# Altium footprint library SON50P100X55-10N.PcbLib: 1 footprints
Each footprint in its own frame and in the unit in brackets; x right, y up, seen from the top. Pads: shape width x height; smd on the part's side, far side on the other; paste and mask are expansions set on the pad; w line width, h text height; cw(c..) or ccw(c..) is an arc to the next point about the centre after c.
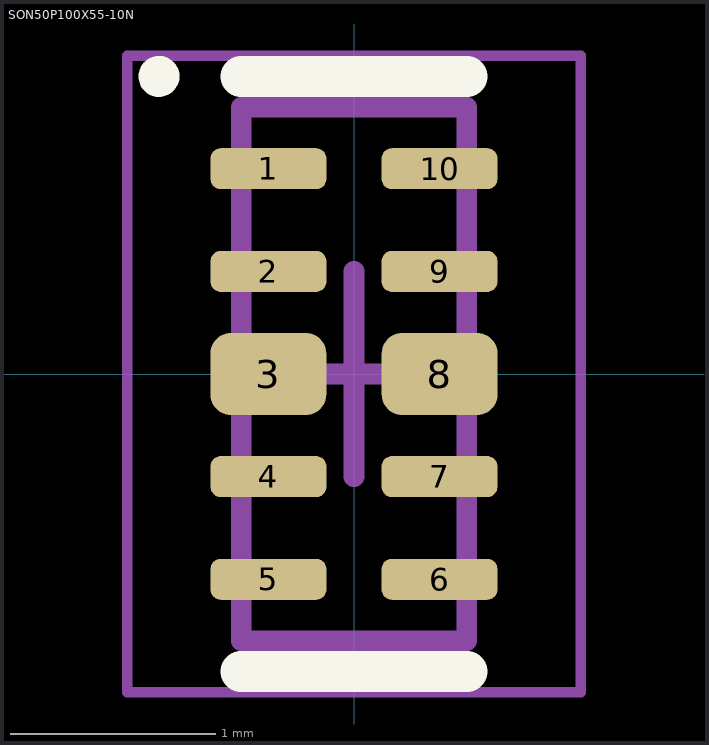
[diagram p0: the footprint, top view; thin cyan lines are the x and y axes]

## SON50P100X55-10N [mm] "SON, 10-Leads, Body 2,50x1,00mm, Pitch 0,50mm, IPC Medium Density"
height 0.55
pads (10):
  rrect50% 0.565x0.2 smd paste-0.03 mask+0.05: 1(-0.417,1) 2(-0.417,0.5) 4(-0.417,-0.5) 5(-0.417,-1) 6(0.417,-1) 7(0.417,-0.5) 9(0.417,0.5) 10(0.417,1)
  rrect50% 0.565x0.4 smd paste-0.05 mask+0.05: 3(-0.417,0) 8(0.417,0)
Top Overlay:
  circle w0.1: c-0.95,1.45 r0.05
  lines w0.2: -0.55,-1.45 0.55,-1.45 ; -0.55,1.45 0.55,1.45
Top Assembly:
  lines w0.1: -0.55,-1.3 -0.55,1.3 0.55,1.3 0.55,-1.3 -0.55,-1.3
Top Courtyard:
  lines w0.05: -1.105,-1.55 -1.105,1.55 1.105,1.55 1.105,-1.55 -1.105,-1.55
  lines w0.1: -0.5,0 0.5,0 ; 0,-0.5 0,0.5
3D body "TPD4E05U06DQAR--3DModel-STEP-56544.STEP": height 0.55, standoff 0, extent -0.5,-1.25 0.5,1.25